# Altium schematic symbol library RSF1JT1K00.SchLib: 1 symbol
Pins are listed as number, name and electrical type; pins without a type are passive.

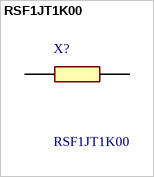
[diagram p0: symbol RSF1JT1K00]

## RSF1JT1K00
designator X?
RES, MO, 1W, 1 Kohm, 5%; Manufacturer_Name: Stackpole Electronics, Inc.; Mouser Part Number: *; Mouser Price/Stock: *; Manufacturer_Part_Number: RSF1JT1K00; Datasheet Link: https://cs.seielect.com/catalog/SEI-RSF_RSMF.pdf
footprint RESAD2900W85L1100D450
pins: 1, 2